# Altium footprint library 05E_ShareComponentLibrary.PcbLib: 12 footprints
Each footprint in its own frame and in the unit in brackets; x right, y up, seen from the top. Pads: shape width x height; smd on the part's side, far side on the other; paste and mask are expansions set on the pad; w line width, h text height; cw(c..) or ccw(c..) is an arc to the next point about the centre after c.
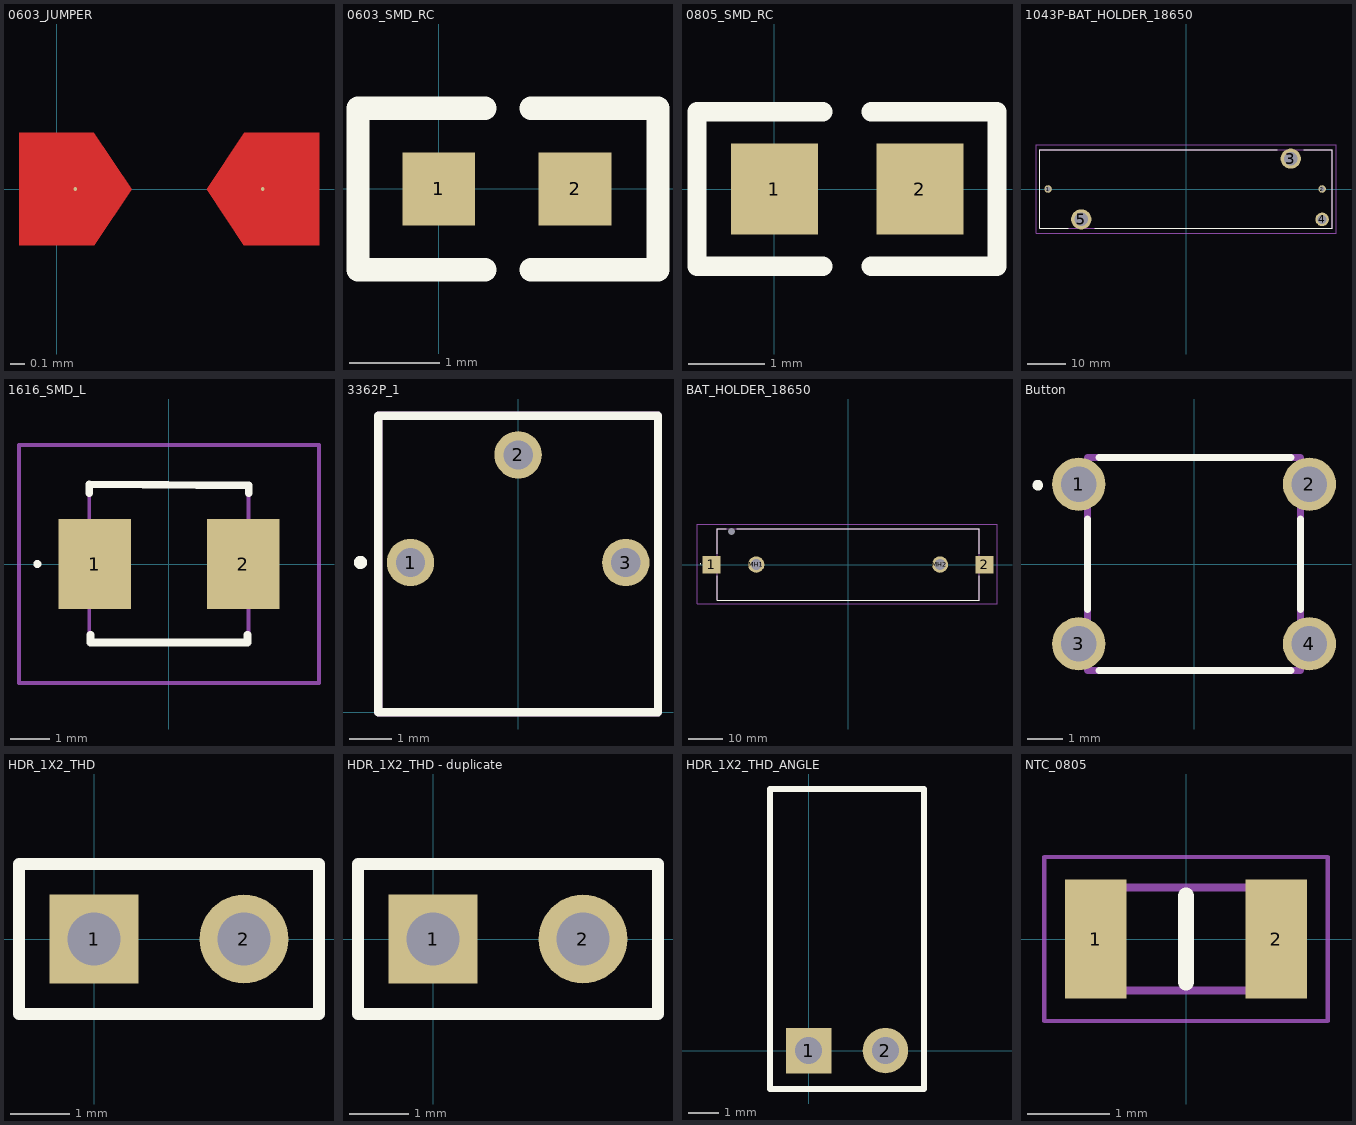
[diagram p0: the footprints below, top view; thin cyan lines are the x and y axes]

## 0603_JUMPER [mil]
pads (2):
  round 1 smd: 1(5,0) 2(55,0)
Top Layer:
  region: 70,15 70,-15 50,-15 40,0 50,15
  region: -10,15 -10,-15 10,-15 20,0 10,15

## 0603_SMD_RC [mm]
pads (2):
  rect 0.8x0.8 smd: 1(0,0) 2(1.5,0)
Top Overlay:
  lines w0.254: 0.508,-0.889 -0.889,-0.889 -0.889,0.889 0.508,0.889 ; 1.016,-0.889 2.413,-0.889 2.413,0.889 1.016,0.889

## 0805_SMD_RC [mm]
pads (2):
  rect 1.14x1.2 smd: 1(0,0) 2(1.91,0)
Top Overlay:
  lines w0.254: 0.635,-1.016 -1.016,-1.016 -1.016,1.016 0.635,1.016 ; 1.27,-1.016 2.921,-1.016 2.921,1.016 1.27,1.016

## 1043P-BAT_HOLDER_18650 [mm]
pads (5):
  round 1.98 hole 1.32: 1(-36.34,0) 2(35.88,0)
  round 5.325 hole 3.55: 3(27.6,8) 5(-27.6,-8)
  round 3.585 hole 2.39: 4(35.88,-8)
Top Overlay:
  lines w0.1: -31,-10.325 -38.525,-10.325 -38.525,10.325 24,10.325 ; -24,-10.325 38.525,-10.325 38.525,10.325 31,10.325
Top Courtyard:
  lines w0.2: -38.525,-10.325 -38.525,10.325 38.525,10.325 38.525,-10.325 -38.525,-10.325
Bottom Assembly:
  lines w0.1: -39.525,-11.662 -39.525,11.662 39.525,11.662 39.525,-11.662 -39.525,-11.662

## 1616_SMD_L [mm]
pads (2):
  rect 1.855x2.286 smd: 1(-1.892,0) 2(1.892,0)
Top Overlay:
  lines w0.1: -3.4,0 ccw(c-3.35,0) -3.3,0 ccw(c-3.35,0) -3.4,0
  lines w0.2: -2.03,1.8 -2.03,2.03 2.03,2 2.03,1.8 ; -2,-1.8 -2,-2 2,-2 2,-1.8
Top Courtyard:
  lines w0.1: -2.03,-2.03 2.03,-2.03 2.03,2.03 -2.03,2.03 -2.03,-2.03
Bottom Assembly:
  lines w0.1: -3.819,-3.03 3.82,-3.03 3.82,3.03 -3.819,3.03 -3.819,-3.03

## 3362P_1 [mm]
pads (3):
  round 1.12 hole 0.69: 1(-2.54,3.53) 2(0,6.07) 3(2.54,3.53)
Top Overlay:
  circle w0.2: c-3.722,3.532 r0.057
  lines w0.2: -3.3,0 3.3,0 3.3,6.99 -3.3,6.99 -3.3,0
Top 3D Body:
  lines w0.2: -3.3,0 -3.3,6.99 3.3,6.99 3.3,0 -3.3,0
3D body "3362P-1-104LF.stp": height 3.22, standoff -6.28, extent -3.24,-0.04 3.36,6.95

## BAT_HOLDER_18650 [mm]
pads (5):
  rect 5.3x5.12 smd: 1(-40.1,0) 2(40.1,0)
  round 4.8 hole 3.2: MH1(-27,0) MH2(27,0)
  round 1 hole 2 unplated: MH3(-34.25,9.75)
Top Overlay:
  lines w0.1: -38.5,-10.5 38.5,-10.5 ; -38.5,-10.5 38.5,-10.5 ; -38.5,-10.5 -38.5,-3.25 -38.5,-10.5 ; -38.5,10.5 -35.75,10.5 -38.5,10.5 ; -38.5,10.5 -38.5,3.25 -38.5,10.5 ; 38.5,-10.5 38.5,-3.25 38.5,-10.5 ; 38.5,10.5 -32.75,10.5 38.5,10.5 ; 38.5,10.5 38.5,3.25 38.5,10.5
  lines w0.2: -43.4,0.25 ccw(c-43.35,0.25) -43.3,0.25 ; -43.4,0.25 cw(c-43.35,0.25) -43.3,0.25 ; -43.4,0.25 ccw(c-43.35,0.25) -43.3,0.25
Top Courtyard:
  lines w0.2: -38.5,-10.5 38.5,-10.5 38.5,10.5 -38.5,10.5 -38.5,-10.5
Bottom Assembly:
  lines w0.1: -44.4,-11.5 43.75,-11.5 43.75,11.85 -44.4,11.85 -44.4,-11.5

## Button [mm]
pads (4):
  round 1.5 hole 1: 1(-3.25,2.25) 2(3.25,2.25) 3(-3.25,-2.25) 4(3.25,-2.25)
Top Overlay:
  circle w0.2: c-4.405,2.22 r0.05
  lines w0.2: -3,-1.277 -3,1.272 ; -2.677,-3 2.732,-3 ; -2.677,3 2.732,3 ; 3,-1.277 3,1.272
Top Courtyard:
  lines w0.2: -3,-3 3,-3 3,3 -3,3 -3,-3
3D body "SKHHBWA010.stp": height 4.3, standoff -3.5, extent -3.949,-3.1 3.949,3.1

## HDR_1X2_THD [mm] "Connector; Header; 2 Position"
pads (2):
  rect 1.5x1.5 hole 0.9: 1(0,0)
  round 1.5 hole 0.9: 2(2.54,0)
Top Overlay:
  lines w0.2: -1.27,-1.27 -1.27,1.27 3.81,1.27 3.81,-1.27 -1.27,-1.27

## HDR_1X2_THD - duplicate [mm] "Connector; Header; 2 Position"
pads (2):
  rect 1.5x1.5 hole 0.9: 1(0,0)
  round 1.5 hole 0.9: 2(2.54,0)
Top Overlay:
  lines w0.2: -1.27,-1.27 3.81,-1.27 3.81,1.27 -1.27,1.27 -1.27,-1.27

## HDR_1X2_THD_ANGLE [mm] "Connector; Header; 2 Position"
pads (2):
  rect 1.5x1.5 hole 0.9: 1(0,0)
  round 1.5 hole 0.9: 2(2.54,0)
Top Overlay:
  lines w0.2: -1.27,-1.27 -1.27,8.636 3.81,8.636 3.81,-1.27 -1.27,-1.27

## NTC_0805 [mm]
pads (2):
  rect 0.75x1.45 smd: 1(-1.1,0) 2(1.1,0)
Top Overlay:
  lines w0.2: 0,-0.525 0,0.525
Top Courtyard:
  lines w0.1: -1,-0.625 -1,0.625 1,0.625 1,-0.625 -1,-0.625
Bottom Assembly:
  lines w0.05: -1.725,-1 -1.725,1 1.725,1 1.725,-1 -1.725,-1